# Altium integrated library Gates and Inverters.IntLib: 1 symbol
Pins are listed as number, name and electrical type; pins without a type are passive.

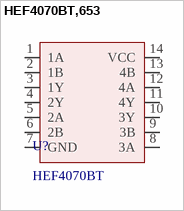
[diagram p0: symbol HEF4070BT,653]

## HEF4070BT,653
designator U?, comment HEF4070BT
XOR (Exclusive OR) IC 4 Channel  14-SO; Manufacturer: Nexperia; Manufacturer Part Number: HEF4070BT,653; Designed: Ferdi; Supplier 1: Digikey; RoHS: Yes; Category: Logic Gates; Stock 1: 4649; Pricing 1: 1=0,5, 10=0,426, 25=0,3972, 100=0,3179, 250=0,29516, 500=0,24976, 1000=0,19299 (USD); ComponentLink1URL: https://assets.nexperia.com/documents/data-sheet/HEF4070B.pdf?src-supplier=Digikey; ComponentLink1Description: https://assets.nexperia.com/documents/data-sheet/HEF4070B.pdf?src-supplier=Digikey; Supplier Part Number 1: 1727-6414-1-ND
footprint SOIC14
pins: 1 1A, 2 1B, 3 1Y, 4 2Y, 5 2A, 6 2B, 7 GND, 8 3A, 9 3B, 10 3Y, 11 4Y, 12 4A, 13 4B, 14 VCC